# Altium schematic symbol library 74HC4052.SchLib: 1 symbol
Pins are listed as number, name and electrical type; pins without a type are passive.

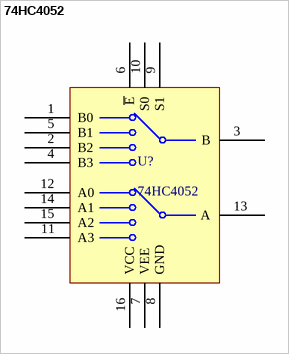
[diagram p0: symbol 74HC4052]

## 74HC4052
designator U?
pins: 1 B0, 2 B2, 3 B, 4 B3, 5 B1, 6 ~{E}, 7 VEE (power), 8 GND (power), 9 S1, 10 S0, 11 A3, 12 A0, 13 A, 14 A1, 15 A2, 16 VCC (power)